# Altium integrated library K155.IntLib: 1 symbol
Pins are listed as number, name and electrical type; pins without a type are passive.

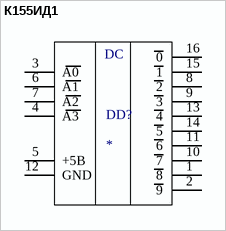
[diagram p0: symbol К155ИД1]

## К155ИД1
designator DD?
footprint К155ИД1
pins: 1 8, 2 9, 3 А0, 4 А3, 5 +5В, 6 А1, 7 А2, 8 2, 9 3, 10 7, 11 6, 12 GND, 13 4, 14 5, 15 1, 16 0
text: DC